# Altium footprint library 500ASSP1SM6QE.PcbLib: 1 footprints
Each footprint in its own frame and in the unit in brackets; x right, y up, seen from the top. Pads: shape width x height; smd on the part's side, far side on the other; paste and mask are expansions set on the pad; w line width, h text height; cw(c..) or ccw(c..) is an arc to the next point about the centre after c.
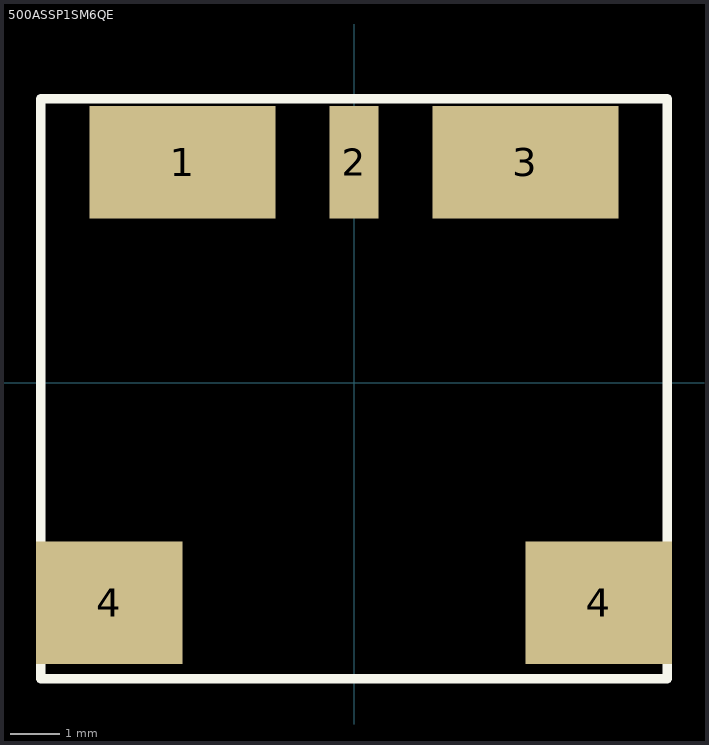
[diagram p0: the footprint, top view; thin cyan lines are the x and y axes]

## 500ASSP1SM6QE [mm]
height 0.9
pads (5):
  rect 3.8x2.3 smd: 1(-3.5,4.5) 3(3.5,4.5)
  rect 1x2.3 smd: 2(0,4.5)
  rect 3x2.5 smd: 4(-5,-4.5) 4(5,-4.5)
Top Overlay:
  lines w0.2: 6.35,-6.05 -6.4,-6.05 -6.4,5.8 6.4,5.8 6.4,-6.05
Top Assembly:
  lines w0.1: -6.4,-6.05 -6.4,5.8 6.4,5.8 6.4,-6.05 -6.4,-6.05
  text "'.Designator'" at -0.95,0.075 h0.7
3D body "500ASSP1SM6QE.step": height 6.08, standoff 0, extent -6.25,-9.085 6.25,5.115